# EAGLE library part DUPONT_2_4 (library TD-MySensors)
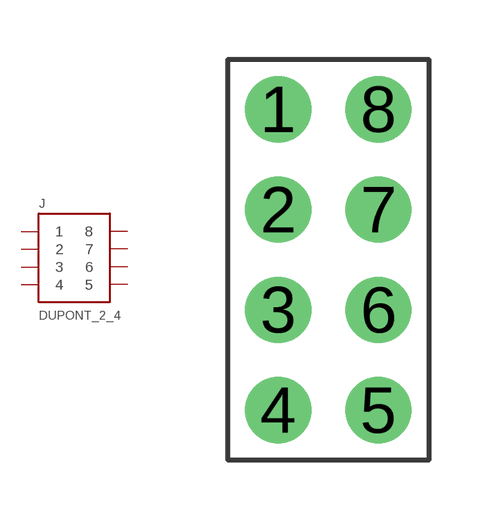
[diagram p6: symbol with the pads of DUPONT_2_4; footprint DUPONT_2_4]

Designator prefix J

## DUPONT_2_4  [DUPONT_2_4]
1  1
2  2
3  3
4  4
5  5
6  6
7  7
8  8

## Footprint DUPONT_2_4 (pad centres in mm)
drill 1.016 pad 1.676: 1 -1.27,3.81; 2 -1.27,1.27; 3 -1.27,-1.27; 4 -1.27,-3.81; 5 1.27,-3.81; 6 1.27,-1.27; 7 1.27,1.27; 8 1.27,3.81